# Altium footprint library LDO.PcbLib: 1 footprints
Each footprint in its own frame and in the unit in brackets; x right, y up, seen from the top. Pads: shape width x height; smd on the part's side, far side on the other; paste and mask are expansions set on the pad; w line width, h text height; cw(c..) or ccw(c..) is an arc to the next point about the centre after c.
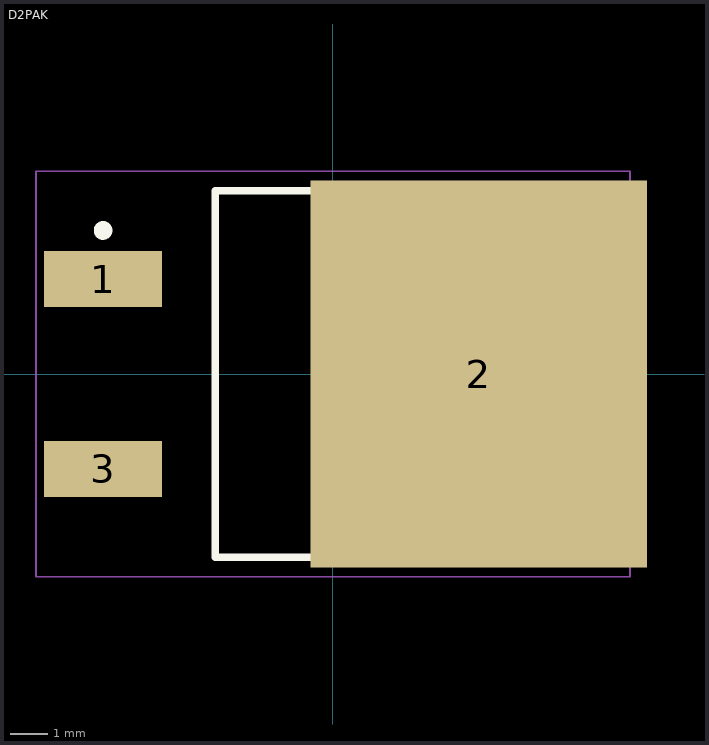
[diagram p0: the footprint, top view; thin cyan lines are the x and y axes]

## D2PAK [mm] "D2-PAK, 3-Pads, Body 7.60x8.26mm (max), IPC Medium Density"
height 4.3
pads (3):
  rect 3.15x1.5 smd: 1(-6.15,2.54) 3(-6.15,-2.54)
  rect 9x10.35 smd: 2(3.9,0)
Top Overlay:
  circle w0.25: c-6.15,3.84 r0.125
  lines w0.2: -0.35,-4.9 -3.15,-4.9 -3.15,4.9 -0.35,4.9
Mechanical 13:
  lines w0.1: -3.15,-4.9 -3.15,4.9 5.85,4.9 5.85,-4.9 -3.15,-4.9
Mechanical 15:
  lines w0.05: -7.95,-5.425 -7.95,5.425 7.95,5.425 7.95,-5.425 -7.95,-5.425
  lines w0.1: -0.5,0 0.5,0 ; 0,-0.5 0,0.5
3D body "NCV565.step": height 4.3, standoff 0, extent -6.165,-5.075 7.985,5.075